# Altium schematic symbol library LoRaSnow_lib.SchLib: 1 symbol
Pins are listed as number, name and electrical type; pins without a type are passive.

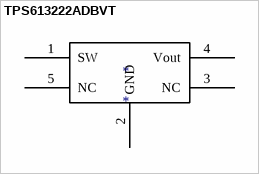
[diagram p0: symbol TPS613222ADBVT]

## TPS613222ADBVT
designator *
footprint SOT23-5
pins: 1 SW, 2 GND, 3 NC, 4 Vout, 5 NC